# Altium integrated library SR.IntLib: 40 symbols
Pins are listed as number, name and electrical type; pins without a type are passive.

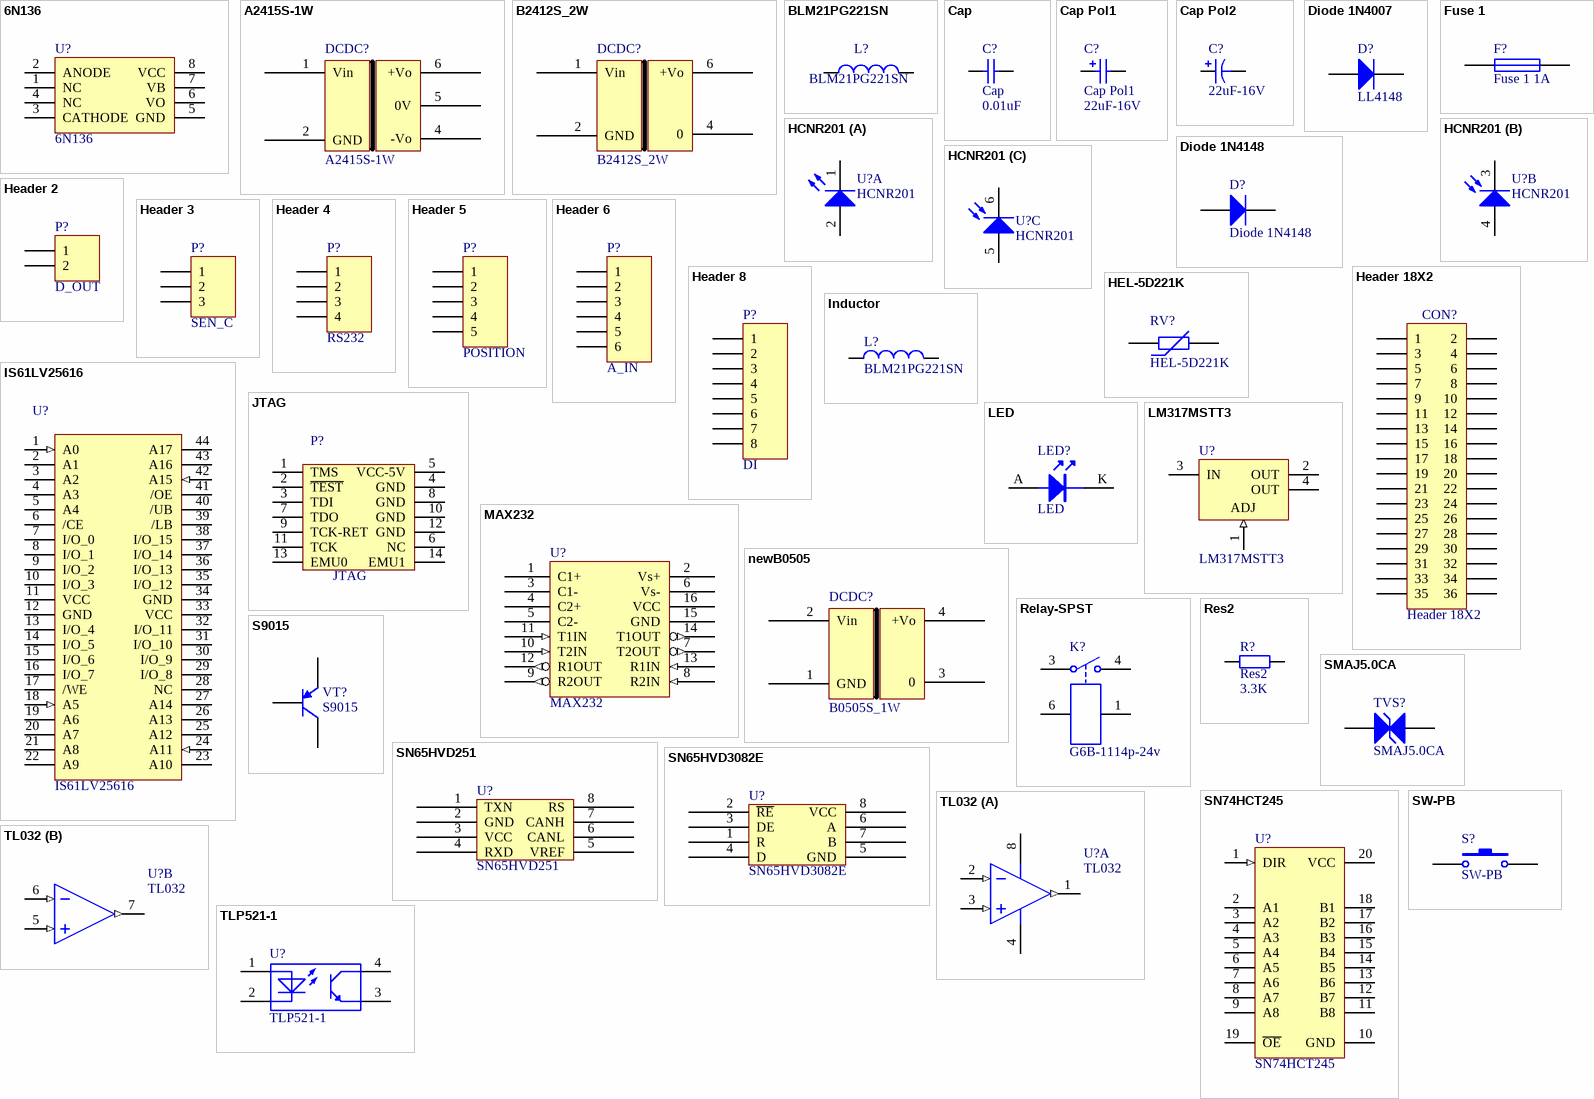
[diagram p0: symbols 6N136 to TLP521-1]

## 6N136
designator U?
光耦
footprint DIP-8N
pins: 1 NC, 2 ANODE, 3 CATHODE, 4 NC (power), 5 GND, 6 VO, 7 VB, 8 VCC (power)

## A2415S-1W
designator DCDC?
footprint NPSIP7 (SIP; 7 Leads (2 Absent); Body 19.5 x 6 mm (LxW typ); Pitch 2.54 mm)
pins: 1 Vin, 2 GND, 4 -Vo, 5 0V, 6 +Vo

## B2412S_2W
designator DCDC?
footprint NPSIP7A_B2412s2 (SIP; 7 Leads (2 Absent); Body 19.5 x 7.6 mm (LxW typ); Pitch 2.54 mm)
pins: 1 Vin, 2 GND, 4 0, 6 +Vo

## BLM21PG221SN
designator L?
footprint 2012 (Capacitor, SM Tantalum; Body 2.0 x 1.25 mm (LxW typ))
pins: 1, 2

## Cap
designator C?  value 0.01uF
Capacitor; Published: 8-Jun-2000; LatestRevisionDate: 17-Jul-2002; LatestRevisionNote: Re-released for DXP Platform.; PackageReference: RAD-0.3; Publisher: Altium Limited
footprint RAD-0.3 (Radial Cap, Thru-Hole; 2 Leads; 0.3 in Pin Spacing)
footprint CAPR2.54-5.1x3.2 (Capacitor, Ceramic, Thru-Hole, Dipped Radial; Body 5.1 x 3.2 mm (WxT) Pin Spacing 2.54 mm (typ))
footprint CAPR5.08-7.8x3.2 (Capacitor, Ceramic, Thru-Hole, Dipped Radial; Body 7.8 x 3.2 mm (WxT) Pin Spacing 5.08 mm (typ))
simulation model CAP (Capacitor)
signal-integrity model Cap
footprint 1206
pins: 1, 2

## Cap Pol1
designator C?  value 22uF-16V
Polarized Capacitor (Radial); Published: 8-Jun-2000; LatestRevisionDate: 17-Jul-2002; LatestRevisionNote: Re-released for DXP Platform.; PackageReference: RB7.6-15; Publisher: Altium Limited
simulation model CAP (Capacitor)
signal-integrity model Cap Pol
footprint 7343 (Capacitor, SM Tantalum; Body 7.3 x 4.3 mm (LxW typ))
pins: 1, 2
1 alternate drawing of the same symbol

## Cap Pol2
designator C?, comment value 22uF-16V  (hidden comment: 22uF)
Polarized Capacitor (Axial); Published: 8-Jun-2000; LatestRevisionDate: 17-Jul-2002; LatestRevisionNote: Re-released for DXP Platform.; PackageReference: POLAR0.8; Publisher: Altium Limited
footprint 7343 (Capacitor, SM Tantalum; Body 7.3 x 4.3 mm (LxW typ))
footprint CAPPA14.05-10.5x6.3 (Capacitor, Axial, Polarised; Body 10.5 x 6.3 mm (LxDia. max), Lead Dia. 0.6 mm (typ))
footprint CAPPA23.6-18.5x8.5 (Capacitor, Axial, Polarised; Body 18.5 x 8.5 mm (LxDia. max), Lead Dia. 0.8 mm (typ))
footprint CAPPA31.6-26.5x12.5 (Capacitor, Axial, Polarised; Body 26.5 x 12.5 mm (LxDia. max), Lead Dia. 0.8 mm (typ))
footprint CAPPA35.6-30.5x18.5 (Capacitor, Axial, Polarised; Body 30.5 x 18.5 mm (LxDia. max), Lead Dia. 0.8 mm (typ))
footprint CAPPA46.1-41x21.5 (Capacitor, Axial, Polarised; Body 41 x 21.5 mm (LxDia. max), Lead Dia. 0.8 mm (typ))
simulation model CAP (Capacitor)
signal-integrity model Cap Pol
pins: 1, 2
1 alternate drawing of the same symbol

## Diode 1N4007
designator D?, comment LL4148
1 Amp General Purpose Rectifier; Published: 8-Jun-2000; LatestRevisionDate: 17-Jul-2002; LatestRevisionNote: Re-released for DXP Platform.; DatasheetVersion: 1998; PackageVersion: Aug-1999; PackageReference: DO-41; Publisher: Altium Limited; Code_JEDEC: DO-204-AL; ComponentLink1Description: Manufacturer Link; ComponentLink1URL: http://www.fairchildsemi.com/; ComponentLink2Description: Datasheet; ComponentLink2URL: http://www.fairchildsemi.com/ds/1N%2F1N4001.pdf
simulation model 1N4007 (DIODE)
signal-integrity model 1N4007
footprint SOD-80/MLL34 (Metal Electrode Face (MELF) Diode; Body 3.5 x 1.7 mm (LxDia))
pins: 1 A, 2 K

## Diode 1N4148
designator D?
High Conductance Fast Diode; Published: 8-Jun-2000; LatestRevisionDate: 17-Jul-2002; LatestRevisionNote: Re-released for DXP Platform.; DatasheetVersion: 1997; PackageReference: DO-35; Publisher: Altium Limited; Code_JEDEC: DO-204-AH; ComponentLink1Description: Manufacturer Link; ComponentLink1URL: http://www.fairchildsemi.com/; ComponentLink2Description: Datasheet; ComponentLink2URL: http://www.fairchildsemi.com/ds/1N%2F1N4148.pdf
simulation model 1N4148 (DIODE)
signal-integrity model 1N4148
footprint SOD-80/MLL34 (Metal Electrode Face (MELF) Diode; Body 3.5 x 1.7 mm (LxDia))
pins: 1 A, 2 K

## Fuse 1
designator F?, comment Fuse 1 1A
Fuse; Published: 8-Jun-2000; LatestRevisionDate: 17-Jul-2002; LatestRevisionNote: Re-released for DXP Platform.; PackageReference: PIN-W2/E2.8; Publisher: Altium Limited
simulation model FUSE (Spice Subcircuit)
footprint 1206
pins: 1, 2

## HCNR201
designator U?
footprint SOP254P1230X400-8N-2 (SOP, 8-Leads, Body 11.3x9.1mm (max), Pitch 2.54mm, IPC Medium Density)
part A pins: 1 K, 2 A
part B pins: 3 K, 4 A
part C pins: 5 A, 6 K

## Header 2
designator P?, comment D_OUT
Header, 2-Pin; LatestRevisionDate: 17-Jul-2002; LatestRevisionNote: Re-released for DXP Platform.; Publisher: Altium Limited
footprint phenox-2
signal-integrity model Connector
pins: 1, 2

## Header 3
designator P?, comment SEN_C
Header, 3-Pin; LatestRevisionDate: 17-Jul-2002; LatestRevisionNote: Re-released for DXP Platform.; Publisher: Altium Limited
signal-integrity model Connector
footprint PHENOX-3
pins: 1, 2, 3

## Header 4
designator P?, comment RS232
Header, 4-Pin; LatestRevisionDate: 17-Jul-2002; LatestRevisionNote: Re-released for DXP Platform.; Publisher: Altium Limited
signal-integrity model Connector
footprint PHONEX-4
pins: 1, 2, 3, 4

## Header 5
designator P?, comment POSITION
Header, 5-Pin; LatestRevisionDate: 17-Jul-2002; LatestRevisionNote: Re-released for DXP Platform.; Publisher: Altium Limited
signal-integrity model Connector
footprint phenox-5
pins: 1, 2, 3, 4, 5

## Header 6
designator P?, comment A_IN
Header, 6-Pin; LatestRevisionDate: 17-Jul-2002; LatestRevisionNote: Re-released for DXP Platform.; Publisher: Altium Limited
footprint phenox-6
signal-integrity model Connector
pins: 1, 2, 3, 4, 5, 6

## Header 8
designator P?, comment DI
Header, 8-Pin; LatestRevisionDate: 17-Jul-2002; LatestRevisionNote: Re-released for DXP Platform.; Publisher: Altium Limited
footprint phenox-8
signal-integrity model Connector
pins: 1, 2, 3, 4, 5, 6, 7, 8

## Header 18X2
designator CON?
Header, 18-Pin, Dual row; LatestRevisionDate: 17-Jul-2002; LatestRevisionNote: Re-released for DXP Platform.; Publisher: Altium Limited
footprint HDR2X18 (Connector; Header; 18x2 Position)
signal-integrity model Connector
pins: 1, 2, 3, 4, 5, 6, 7, 8, 9, 10, 11, 12, 13, 14, 15, 16, 17, 18, 19, 20, 21, 22, 23, 24, 25, 26, 27, 28, 29, 30, 31, 32, 33, 34, 35, 36

## HEL-5D221K
designator RV?
footprint RAD-0.2 (Radial Cap, Thru-Hole; 2 Leads; 0.2 in Pin Spacing)
pins: 1, 2

## Inductor
designator L?, comment BLM21PG221SN
Inductor; Code_IEC: 1005; Value: 10mH; Published: 8-Jun-2000; LatestRevisionDate: 29-May-2009; LatestRevisionNote: IPC-7351 Footprint Added.; PackageReference: 0402-A; Publisher: Altium Limited; PackageDescription: Chip Inductor; Code_JEITA: 0402
footprint INDC1005AL (Chip Inductor, Body 1.0x0.5mm, IPC High Density)
footprint INDC1608L (Chip Inductor, Body 1.6x0.8mm, IPC High Density)
footprint INDC2012L (Chip Inductor, Body 2.0x1.2mm, IPC High Density)
footprint INDC0603L (Chip Inductor, Body 0.6x0.3mm, IPC High Density)
footprint INDC3216AL (Chip Inductor, Body 3.2x1.6mm, IPC High Density)
footprint INDC4532L (Chip Inductor, Body 4.5x3.2mm, IPC High Density)
simulation model INDUCTOR (Inductor)
signal-integrity model Inductor
footprint 2012 (Capacitor, SM Tantalum; Body 2.0 x 1.25 mm (LxW typ))
pins: 1, 2

## IS61LV25616
designator U?
footprint TSOP44 - duplicate
pins: 1 A0 (in), 2 A1, 3 A2, 4 A3, 5 A4, 6 /CE, 7 I/O_0, 8 I/O_1, 9 I/O_2, 10 I/O_3, 11 VCC, 12 GND, 13 I/O_4, 14 I/O_5, 15 I/O_6, 16 I/O_7, 17 /WE, 18 A5 (in), 19 A6, 20 A7, 21 A8, 22 A9, 23 A10, 24 A11 (in), 25 A12, 26 A13, 27 A14, 28 NC, 29 I/O_8, 30 I/O_9, 31 I/O_10, 32 I/O_11, 33 VCC, 34 GND, 35 I/O_12, 36 I/O_13, 37 I/O_14, 38 I/O_15, 39 /LB, 40 /UB, 41 /OE, 42 A15 (in), 43 A16, 44 A17

## JTAG
designator P?
footprint DIP14-2.54
pins: 1 TMS, 2 ~{TEST}, 3 TDI, 4 GND, 5 VCC-5V, 6 NC, 7 TDO, 8 GND, 9 TCK-RET, 10 GND, 11 TCK, 12 GND, 13 EMU0, 14 EMU1

## LED
designator LED?
footprint 0805D
pins: A 1, K 2

## LM317MSTT3
designator U?
Three-Terminal Adjustable Output Positive Voltage Regulator; Note: Pin 2 is electrically connected to Pin 4 (TAB); Published: 15-Apr-2002; DatasheetVersion: Nov-1999; PackageVersion: Nov-1999; PackageReference: 318E-04; Publisher: Altium Limited; PackageDescription: SOT-223/SC-73; 4 Leads; Body 6.7 x 7.3 mm, inc. leads (LxW max); ComponentLink1Description: Manufacturer Link; ComponentLink1URL: http://www.onsemi.com/site/products/taxonomy/0,4438,503,00.html; ComponentLink2Description: Datasheet; ComponentLink2URL: http://www.onsemi.com/pub/Collateral/LM317M-D.PDF
footprint SOT223-4N (SOT223, 4-Leads, Body 6.5x3.5mm, Pitch 2.3mm, Lead Span 7mm, IPC Medium Density)
pins: 1 ADJ (in), 2 OUT (power), 3 IN (power), 4 OUT (power)

## MAX232
designator U?
DUAL EIA-232 DRIVER/RECEIVER
footprint SO16_M (16-Pin Small Outline Integrated Circuit 1.27 mm Pitch, IPC Low Density)
pins: 1 C1+, 2 Vs+, 3 C1-, 4 C2+, 5 C2-, 6 Vs-, 7 T2OUT (out), 8 R2IN (in), 9 R2OUT (out), 10 T2IN (in), 11 T1IN (in), 12 R1OUT (out), 13 R1IN (in), 14 T1OUT (out), 15 GND (power), 16 VCC (power)
1 alternate drawing of the same symbol

## newB0505
designator DCDC?, comment B0505S_1W
footprint B0505
pins: 1 GND, 2 Vin, 3 0, 4 +Vo

## Relay-SPST
designator K?, comment G6B-1114p-24v
Single-Pole Single-Throw Relay; Published: 24-Mar-1999; LatestRevisionDate: 17-Jul-2002; LatestRevisionNote: Re-released for DXP Platform.; PackageReference: MODULE4; Publisher: Altium Limited
simulation model SPSTRELAY (Spice Subcircuit)
footprint SPST-NO
pins: 1, 3, 4, 6

## Res2
designator R?  value 3.3K
Resistor; Published: 8-Jun-2000; LatestRevisionDate: 17-Jul-2002; LatestRevisionNote: Re-released for DXP Platform.; PackageReference: AXIAL-0.4; Publisher: Altium Limited
simulation model RESISTOR (Resistor)
signal-integrity model Res
footprint 1206
pins: 1, 2

## S9015
designator VT?
footprint SOT23
pins: 1, 2, 3

## SMAJ5.0CA
designator TVS?
footprint TVS-SMA
pins: 1 A, 2 K

## SN65HVD251
designator U?
footprint SO-8
pins: 1 TXN, 2 GND, 3 VCC, 4 RXD, 5 VREF, 6 CANL, 7 CANH, 8 RS

## SN65HVD3082E
designator U?
footprint SO-8
pins: 1 R, 2 ~{RE}, 3 DE, 4 D, 5 GND, 6 A, 7 B, 8 VCC

## SN74HCT245
designator U?
footprint SO20_M (SOIC, 20-Leads, Body 12.8x7.5mm, Pitch 1.27mm, IPC Low Density)
pins: 1 DIR (in), 2 A1, 3 A2, 4 A3, 5 A4, 6 A5, 7 A6, 8 A7, 9 A8, 10 GND, 11 B8, 12 B7, 13 B6, 14 B5, 15 B4, 16 B3, 17 B2, 18 B1, 19 ~{OE}, 20 VCC (power)

## SW-PB
designator S?
Switch; Published: 24-Mar-1999; LatestRevisionDate: 17-Jul-2002; LatestRevisionNote: Re-released for DXP Platform.; PackageReference: SPST-2; Publisher: Altium Limited
footprint B3F4050
pins: 1, 2

## TL032
designator U?
footprint SO-8
part A pins: 1 OUT (out), 2 IN- (in), 3 IN+ (in), 4 V- (power), 8 V+ (power)
part B pins: 5 IN+ (in), 6 IN- (in), 7 OUT (out)

## TLP521-1
designator U?
footprint DIP4
pins: 1, 2, 3, 4

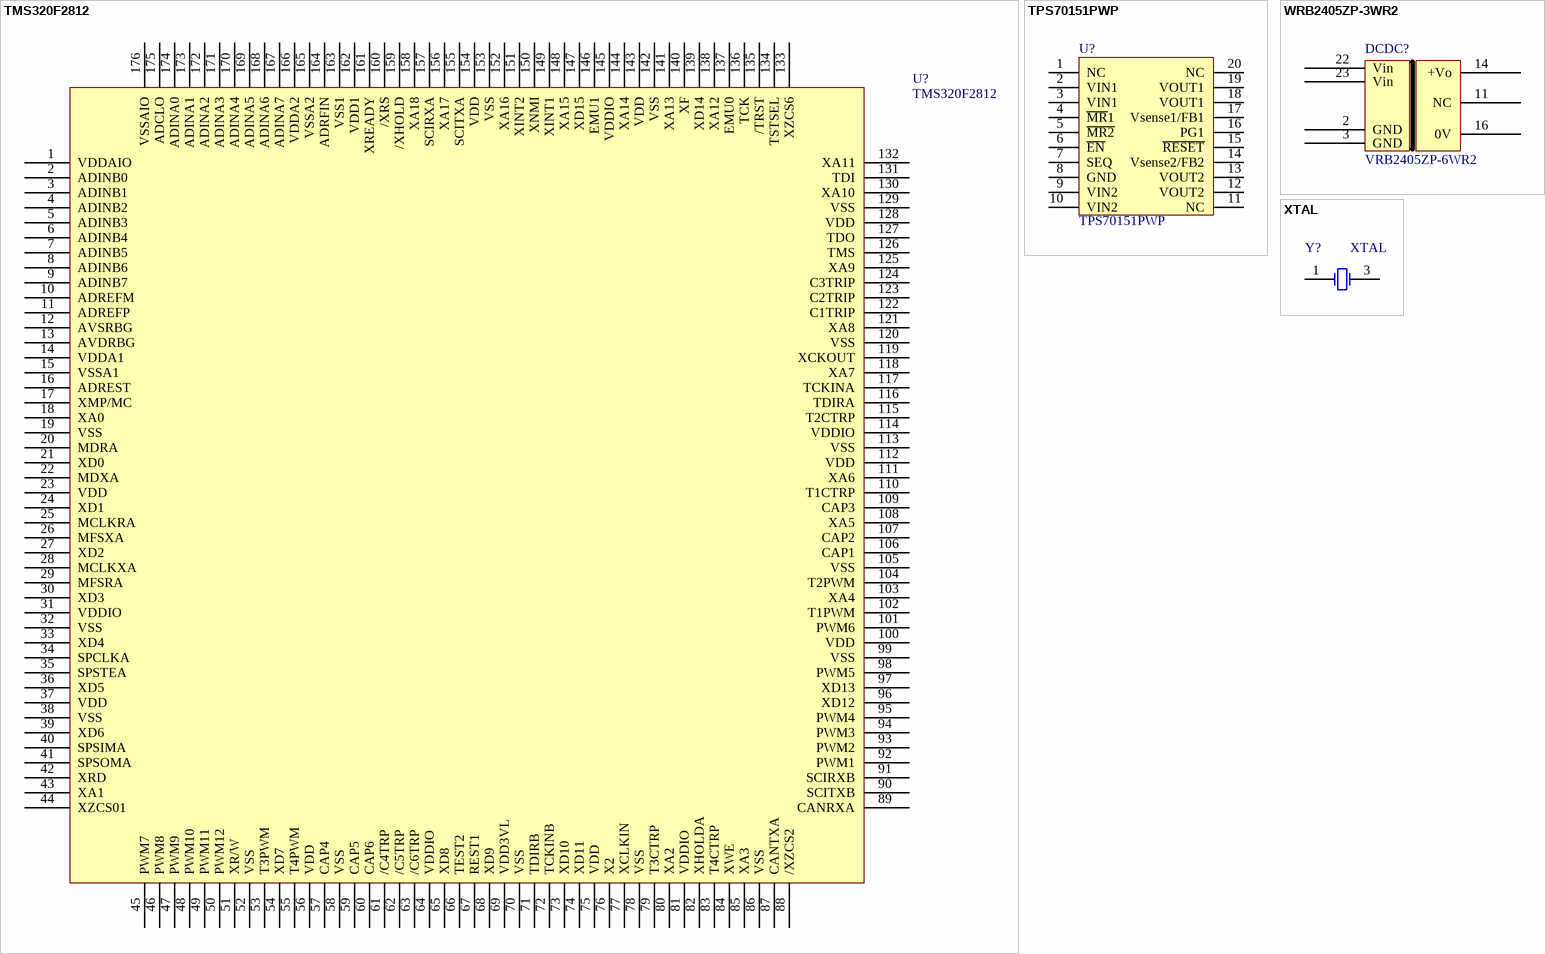
[diagram p1: symbols TMS320F2812 to XTAL]

## TMS320F2812
designator U?
footprint pqfp176
footprint LQFP176_N (Thin QFP, 176-Leads, Body 24x24mm, Pitch 0.5mm, IPC Medium Density)
pins: 1 VDDAIO, 2 ADINB0, 3 ADINB1, 4 ADINB2, 5 ADINB3, 6 ADINB4, 7 ADINB5, 8 ADINB6, 9 ADINB7, 10 ADREFM, 11 ADREFP, 12 AVSRBG, 13 AVDRBG, 14 VDDA1, 15 VSSA1, 16 ADREST, 17 XMP/MC, 18 XA0, 19 VSS, 20 MDRA, 21 XD0, 22 MDXA, 23 VDD, 24 XD1, 25 MCLKRA, 26 MFSXA, 27 XD2, 28 MCLKXA, 29 MFSRA, 30 XD3, 31 VDDIO, 32 VSS, 33 XD4, 34 SPCLKA, 35 SPSTEA, 36 XD5, 37 VDD, 38 VSS, 39 XD6, 40 SPSIMA, 41 SPSOMA, 42 XRD, 43 XA1, 44 XZCS01, 45 PWM7, 46 PWM8, 47 PWM9, 48 PWM10, 49 PWM11, 50 PWM12, 51 XR/W, 52 VSS, 53 T3PWM, 54 XD7, 55 T4PWM, 56 VDD, 57 CAP4, 58 VSS, 59 CAP5, 60 CAP6, 61 /C4TRP, 62 /C5TRP, 63 /C6TRP, 64 VDDIO, 65 XD8, 66 TEST2, 67 REST1, 68 XD9, 69 VDD3VL, 70 VSS, 71 TDIRB, 72 TCKINB, 73 XD10, 74 XD11, 75 VDD, 76 X2, 77 XCLKIN, 78 VSS, 79 T3CTRP, 80 XA2, 81 VDDIO, 82 XHOLDA, 83 T4CTRP, 84 XWE, 85 XA3, 86 VSS, 87 CANTXA, 88 /XZCS2, 89 CANRXA, 90 SCITXB, 91 SCIRXB, 92 PWM1, 93 PWM2, 94 PWM3, 95 PWM4, 96 XD12, 97 XD13, 98 PWM5, 99 VSS, 100 VDD, 101 PWM6, 102 T1PWM, 103 XA4, 104 T2PWM, 105 VSS, 106 CAP1, 107 CAP2, 108 XA5, 109 CAP3, 110 T1CTRP, 111 XA6, 112 VDD, 113 VSS, 114 VDDIO, 115 T2CTRP, 116 TDIRA, 117 TCKINA, 118 XA7, 119 XCKOUT, 120 VSS, 121 XA8, 122 C1TRIP, 123 C2TRIP, 124 C3TRIP, 125 XA9, 126 TMS, 127 TDO, 128 VDD, 129 VSS, 130 XA10, 131 TDI, 132 XA11, 133 XZCS6, 134 TSTSEL, 135 /TRST, 136 TCK, 137 EMU0, 138 XA12, 139 XD14, 140 XF, 141 XA13, 142 VSS, 143 VDD, 144 XA14, 145 VDDIO, 146 EMU1, 147 XD15, 148 XA15, 149 XINT1, 150 XNMI, 151 XINT2, 152 XA16, 153 VSS, 154 VDD, 155 SCITXA, 156 XA17, 157 SCIRXA, 158 XA18, 159 /XHOLD, 160 /XRS, 161 XREADY, 162 VDD1, 163 VSS1, 164 ADRFIN, 165 VSSA2, 166 VDDA2, 167 ADINA7, 168 ADINA6, 169 ADINA5, 170 ADINA4, 171 ADINA3, 172 ADINA2, 173 ADINA1, 174 ADINA0, 175 ADCLO, 176 VSSAIO

## TPS70151PWP
designator U?
footprint tssop20 (Shrink Small Outline; 20 Leads; Body Width 4.4 mm; Pitch 0.65 mm)
pins: 1 NC, 2 VIN1, 3 VIN1, 4 ~{MR}1, 5 ~{MR2}, 6 ~{EN}, 7 SEQ, 8 GND, 9 VIN2, 10 VIN2, 11 NC, 12 VOUT2, 13 VOUT2, 14 Vsense2/FB2, 15 ~{RESET}, 16 PG1, 17 Vsense1/FB1, 18 VOUT1, 19 VOUT1, 20 NC

## WRB2405ZP-3WR2
designator DCDC?, comment VRB2405ZP-6WR2
footprint DIP24
pins: 2 GND, 3 GND, 11 NC, 14 +Vo, 16 0V, 22 Vin, 23 Vin

## XTAL
designator Y?
Crystal Oscillator; Published: 8-Jun-2000; LatestRevisionDate: 17-Jul-2002; LatestRevisionNote: Re-released for DXP Platform.; PackageReference: R38; Publisher: Altium Limited
footprint SMD5032
simulation model XTAL (Spice Subcircuit)
pins: 1 OSC1, 3 OSC2